# Altium schematic symbol library 2212S-10SG-85.SchLib: 2 symbols
Pins are listed as number, name and electrical type; pins without a type are passive.

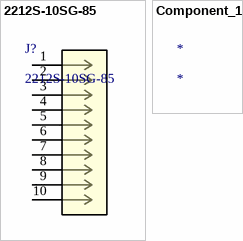
[diagram p0: symbols 2212S-10SG-85 to Component_1]

## 2212S-10SG-85
designator J?
No Description Available; Mfr_Name: Multicomp; Copyright: Copyright (C) 2023 Ultra Librarian. All rights reserved.; Manufacturer_Part_Number: 2212S-10SG-85; RefDes: RefDes; Type: DEV
footprint CONN_2212S-10SG-85_MTC
pins: 1, 2, 3, 4, 5, 6, 7, 8, 9, 10

## Component_1
designator *